# EAGLE library part OPA699ID (library OPA699ID)
Texas Instruments OPA699ID Op Amp, 880MHz, 9 V, 8-Pin SOIC Source: Datasheet <http://www.ti.com/lit/gpn/opa699>
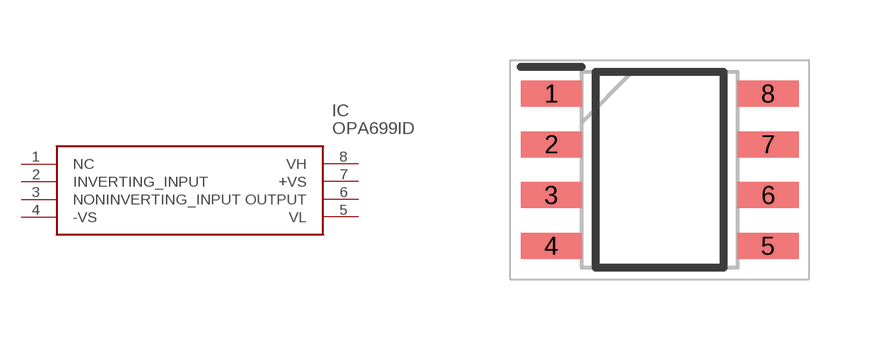
[diagram p0: symbol with the pads of SOIC127P600X175-8N; footprint SOIC127P600X175-8N]

Designator prefix IC

## OPA699ID (Description: Texas Instruments OPA699ID Op Amp, 880MHz, 9 V, 8-Pin SOIC; Height: 1.75mm; Manufacturer_Name: Texas Instruments; Manufacturer_Part_Number: OPA699ID; Mouser_Part_Number: 595-OPA699ID; Mouser_Price-Stock: https://www.mouser.co.uk/ProductDetail/Texas-Instruments/OPA699ID?qs=wgAEGBTxy7n0Nk%252BpyQzyiA%3D%3D)  [SOIC127P600X175-8N]
1  NC  nc
2  INVERTING_INPUT
3  NONINVERTING_INPUT
4  -VS
5  VL
6  OUTPUT
7  +VS
8  VH

## Footprint SOIC127P600X175-8N (pad centres in mm)
D0008A
smd 1.528 x 0.65: 1 -2.711,1.905; 2 -2.711,0.635; 3 -2.711,-0.635; 4 -2.711,-1.905; 5 2.711,-1.905; 6 2.711,-0.635; 7 2.711,0.635; 8 2.711,1.905